# EAGLE library part EPF10K10TI144-4N (library CasaLibrary)
Embedded Programmable Logic Device
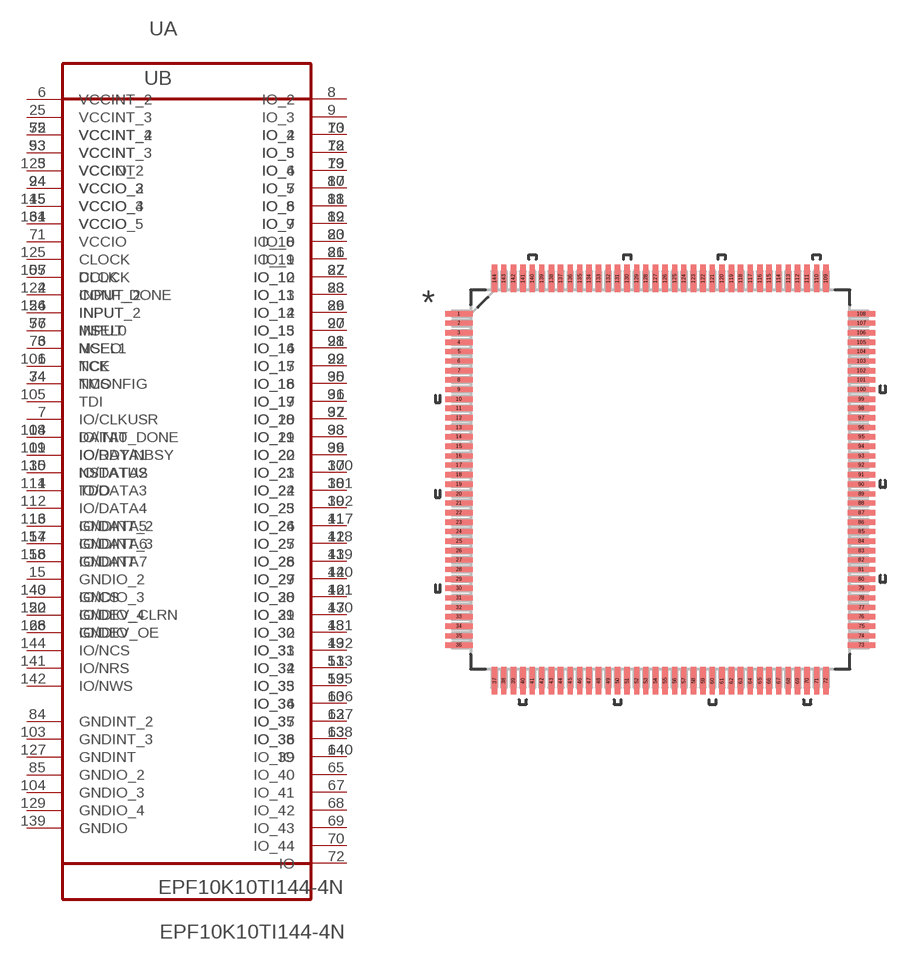
[diagram p16: symbol with the pads of QFP50P2200X2200X160-144N; footprint QFP50P2200X2200X160-144N]

Designator prefix -; gates A=EPF10K10TI144-4N_A B=EPF10K10TI144-4N_B

## EPF10K10TI144-4N (MPN: EPF10K10TI144-4N; OC_FARNELL: -; OC_NEWARK: 51R8776; PACKAGE: QFP-144; SUPPLIER: Altera)  [QFP50P2200X2200X160-144N]
1  A:TCK  in
2  A:CONF_DONE  in
3  A:NCEO  in
4  A:TDO  out
5  A:VCCIO_2  pwr
6  A:VCCINT_2  pwr
7  A:IO/CLKUSR
8  A:IO_2
9  A:IO_3
10  A:IO_4
11  A:IO/RDY/NBSY
12  A:IO_5
13  A:IO_6
14  A:IO/INIT_DONE
15  A:GNDIO_2  pas
16  A:GNDINT_2  pas
17  A:IO_7
18  A:IO_8
19  A:IO_9
20  A:IO_10
21  A:IO_11
22  A:IO_12
23  A:IO_13
24  A:VCCIO_3  pwr
25  A:VCCINT_3  pwr
26  A:IO_14
27  A:IO_15
28  A:IO_16
29  A:IO_17
30  A:IO_18
31  A:IO_19
32  A:IO_20
33  A:IO_21
34  A:TMS  in
35  A:NSTATUS  out
36  A:IO_22
37  A:IO_23
38  A:IO_24
39  A:IO_25
40  A:GNDIO_3  pas
41  A:IO_26
42  A:IO_27
43  A:IO_28
44  A:IO_29
45  A:VCCIO_4  pwr
46  A:IO_30
47  A:IO_31
48  A:IO_32
49  A:IO_33
50  A:GNDIO_4  pas
51  A:IO_34
52  A:VCCINT_4  pwr
53  A:VCCINT  pwr
54  A:INPUT_2  in
55  A:CLOCK  in
56  A:INPUT  in
57  A:GNDINT_3  pas
58  A:GNDINT  pas
59  A:IO_35
60  A:IO_36
61  A:VCCIO_5  pwr
62  A:IO_37
63  A:IO_38
64  A:IO_39
65  A:IO_40
66  A:GNDIO  pas
67  A:IO_41
68  A:IO_42
69  A:IO_43
70  A:IO_44
71  A:VCCIO  pwr
72  A:IO
73  B:IO_2
74  B:NCONFIG  in
75  B:VCCINT_2  pwr
76  B:MSEL1  in
77  B:MSEL0  in
78  B:IO_3
79  B:IO_4
80  B:IO_5
81  B:IO_6
82  B:IO_7
83  B:IO_8
84  B:GNDINT_2  pas
85  B:GNDIO_2  pas
86  B:IO_9
87  B:IO_10
88  B:IO_11
89  B:IO_12
90  B:IO_13
91  B:IO_14
92  B:IO_15
93  B:VCCINT_3  pwr
94  B:VCCIO_2  pwr
95  B:IO_16
96  B:IO_17
97  B:IO_18
98  B:IO_19
99  B:IO_20
100  B:IO_21
101  B:IO_22
102  B:IO_23
103  B:GNDINT_3  pas
104  B:GNDIO_3  pas
105  B:TDI  in
106  B:NCE  in
107  B:DCLK  in
108  B:DATA0
109  B:IO/DATA1
110  B:IO/DATA2
111  B:IO/DATA3
112  B:IO/DATA4
113  B:IO/DATA5
114  B:IO/DATA6
115  B:VCCIO_3  pwr
116  B:IO/DATA7
117  B:IO_24
118  B:IO_25
119  B:IO_26
120  B:IO_27
121  B:IO_28
122  B:IO/DEV_CLRN
123  B:VCCINT  pwr
124  B:INPUT_2  in
125  B:CLOCK  in
126  B:INPUT  in
127  B:GNDINT  pas
128  B:IO/DEV_OE
129  B:GNDIO_4  pas
130  B:IO_29
131  B:IO_30
132  B:IO_31
133  B:IO_32
134  B:VCCIO  pwr
135  B:IO_33
136  B:IO_34
137  B:IO_35
138  B:IO_36
139  B:GNDIO  pas
140  B:IO
141  B:IO/NRS
142  B:IO/NWS
143  B:IO/CS
144  B:IO/NCS

## Footprint QFP50P2200X2200X160-144N (pad centres in mm)
smd 1.473 x 0.279: 1 -10.617,8.738; 2 -10.617,8.255; 3 -10.617,7.747; 4 -10.617,7.239; 5 -10.617,6.756; 6 -10.617,6.248; 7 -10.617,5.74; 8 -10.617,5.258; 9 -10.617,4.75; 10 -10.617,4.242; 11 -10.617,3.759; 12 -10.617,3.251; 13 -10.617,2.743; 14 -10.617,2.261; 15 -10.617,1.753; 16 -10.617,1.245; 17 -10.617,0.762; 18 -10.617,0.254; 19 -10.617,-0.254; 20 -10.617,-0.762; 21 -10.617,-1.245; 22 -10.617,-1.753; 23 -10.617,-2.261; 24 -10.617,-2.743; 25 -10.617,-3.251; 26 -10.617,-3.759; 27 -10.617,-4.242; 28 -10.617,-4.75; 29 -10.617,-5.258; 30 -10.617,-5.74; 31 -10.617,-6.248; 32 -10.617,-6.756; 33 -10.617,-7.239; 34 -10.617,-7.747; 35 -10.617,-8.255; 36 -10.617,-8.738; 73 10.617,-8.738; 74 10.617,-8.255; 75 10.617,-7.747; 76 10.617,-7.239; 77 10.617,-6.756; 78 10.617,-6.248; 79 10.617,-5.74; 80 10.617,-5.258; 81 10.617,-4.75; 82 10.617,-4.242; 83 10.617,-3.759; 84 10.617,-3.251; 85 10.617,-2.743; 86 10.617,-2.261; 87 10.617,-1.753; 88 10.617,-1.245; 89 10.617,-0.762; 90 10.617,-0.254; 91 10.617,0.254; 92 10.617,0.762; 93 10.617,1.245; 94 10.617,1.753; 95 10.617,2.261; 96 10.617,2.743; 97 10.617,3.251; 98 10.617,3.759; 99 10.617,4.242; 100 10.617,4.75; 101 10.617,5.258; 102 10.617,5.74; 103 10.617,6.248; 104 10.617,6.756; 105 10.617,7.239; 106 10.617,7.747; 107 10.617,8.255; 108 10.617,8.738
smd 0.279 x 1.473: 37 -8.738,-10.617; 38 -8.255,-10.617; 39 -7.747,-10.617; 40 -7.239,-10.617; 41 -6.756,-10.617; 42 -6.248,-10.617; 43 -5.74,-10.617; 44 -5.258,-10.617; 45 -4.75,-10.617; 46 -4.242,-10.617; 47 -3.759,-10.617; 48 -3.251,-10.617; 49 -2.743,-10.617; 50 -2.261,-10.617; 51 -1.753,-10.617; 52 -1.245,-10.617; 53 -0.762,-10.617; 54 -0.254,-10.617; 55 0.254,-10.617; 56 0.762,-10.617; 57 1.245,-10.617; 58 1.753,-10.617; 59 2.261,-10.617; 60 2.743,-10.617; 61 3.251,-10.617; 62 3.759,-10.617; 63 4.242,-10.617; 64 4.75,-10.617; 65 5.258,-10.617; 66 5.74,-10.617; 67 6.248,-10.617; 68 6.756,-10.617; 69 7.239,-10.617; 70 7.747,-10.617; 71 8.255,-10.617; 72 8.738,-10.617; 109 8.738,10.617; 110 8.255,10.617; 111 7.747,10.617; 112 7.239,10.617; 113 6.756,10.617; 114 6.248,10.617; 115 5.74,10.617; 116 5.258,10.617; 117 4.75,10.617; 118 4.242,10.617; 119 3.759,10.617; 120 3.251,10.617; 121 2.743,10.617; 122 2.261,10.617; 123 1.753,10.617; 124 1.245,10.617; 125 0.762,10.617; 126 0.254,10.617; 127 -0.254,10.617; 128 -0.762,10.617; 129 -1.245,10.617; 130 -1.753,10.617; 131 -2.261,10.617; 132 -2.743,10.617; 133 -3.251,10.617; 134 -3.759,10.617; 135 -4.242,10.617; 136 -4.75,10.617; 137 -5.258,10.617; 138 -5.74,10.617; 139 -6.248,10.617; 140 -6.756,10.617; 141 -7.239,10.617; 142 -7.747,10.617; 143 -8.255,10.617; 144 -8.738,10.617